# Altium footprint library ap-pam.PcbLib: 8 footprints
Each footprint in its own frame and in the unit in brackets; x right, y up, seen from the top. Pads: shape width x height; smd on the part's side, far side on the other; paste and mask are expansions set on the pad; w line width, h text height; cw(c..) or ccw(c..) is an arc to the next point about the centre after c.
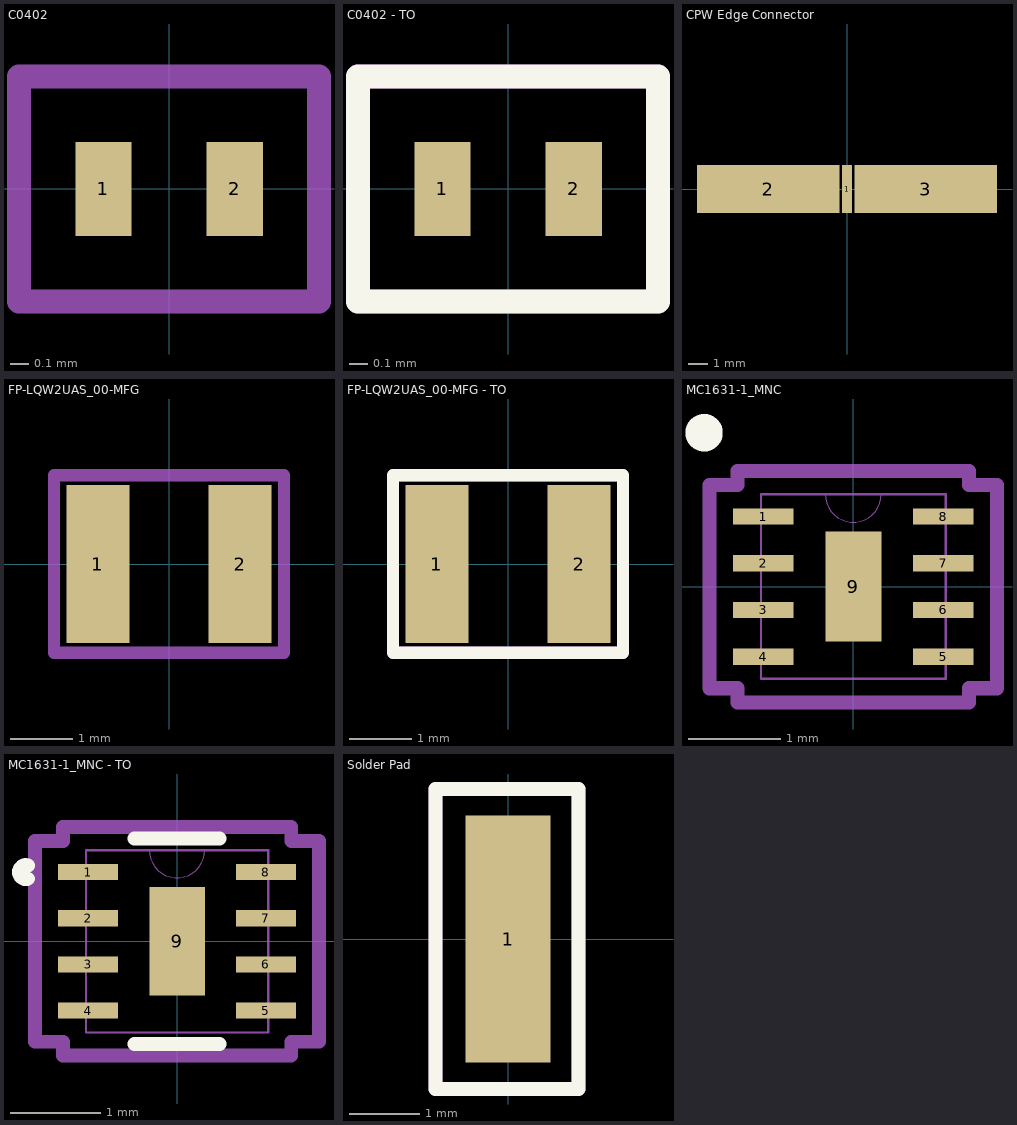
[diagram p0: the footprints below, top view; thin cyan lines are the x and y axes]

## C0402 [mm]
pads (2):
  rect 0.3x0.5 smd: 1(-0.35,0) 2(0.35,0)
Top Paste:
  rectangle: -0.5,-0.25 -0.2,0.25
  rectangle: 0.2,-0.25 0.5,0.25
Top Assembly:
  lines w0.127: -0.8,-0.6 0.8,-0.6 0.8,0.6 -0.8,0.6 -0.8,-0.6
  text ".Designator" at -2.499,-0.167 h0.5
3D body "CAP_0402_AVX.step": height 0.5, standoff 0, extent -0.51,-0.32 0.5,0.32

## C0402 - TO [mm]
pads (2):
  rect 0.3x0.5 smd: 1(-0.35,0) 2(0.35,0)
Top Overlay:
  lines w0.127: -0.8,-0.6 -0.8,0.6 0.8,0.6 0.8,-0.6 -0.8,-0.6
Top Paste:
  rectangle: 0.2,-0.25 0.5,0.25
  rectangle: -0.5,-0.25 -0.2,0.25
Top Assembly:
  lines w0.127: -0.8,-0.6 -0.8,0.6 0.8,0.6 0.8,-0.6 -0.8,-0.6
  text ".Designator" at -3.499,-0.233 h0.7
3D body "CAP_0402_AVX.step": height 0.5, standoff 0, extent -0.51,-0.32 0.5,0.32

## CPW Edge Connector [mm]
pads (3):
  rect 0.538x2.54 smd paste-2539.97: 1(0,0)
  rect 7.5x2.54 smd paste-2539.97: 2(-4.133,0) 3(4.133,0)

## FP-LQW2UAS_00-MFG [mm]
pads (2):
  rect 1.015x2.54 smd paste+0 mask+0: 1(-1.142,0) 2(1.142,0)
Top Assembly:
  lines w0.2: -1.85,-1.425 1.85,-1.425 1.85,1.425 -1.85,1.425 -1.85,-1.425
  text ".Designator" at -2.499,-0.167 h0.5
3D body "Ind_Murata_LQW2UAS12NG00B_eec.STEP": height 2.03, standoff 0, extent -1.31,-1.225 1.31,1.225

## FP-LQW2UAS_00-MFG - TO [mm]
pads (2):
  rect 1.015x2.54 smd paste+0 mask+0: 1(-1.142,0) 2(1.142,0)
Top Overlay:
  lines w0.2: -1.85,-1.425 1.85,-1.425 1.85,1.425 -1.85,1.425 -1.85,-1.425
Top Assembly:
  lines w0.2: -1.85,-1.425 -1.85,1.425 1.85,1.425 1.85,-1.425 -1.85,-1.425
  text ".Designator" at 0,0.188 h1
3D body "Ind_Murata_LQW2UAS12NG00B_eec.STEP": height 2.03, standoff 0, extent -1.31,-1.225 1.31,1.225

## MC1631-1_MNC [mil]
pads (9):
  rect 26x7 smd paste+0 mask+0: 1(-38.5,30) 2(-38.5,10) 3(-38.5,-10) 4(-38.5,-30) 5(38.5,-30) 6(38.5,-10) 7(38.5,10) 8(38.5,30)
  rect 24x47 smd paste+0 mask+0: 9(0,0)
Top Overlay:
  circle w10: c-63.89,65.85 r3
  lines w6: -62.99,62.99 cw(c-63.89,65.85) -62.99,68.72
Top Assembly:
  lines w0: -12,39.5 ccw(c0,39.5) 12,39.5
  lines w1: -39.5,-39.5 -39.5,39.5 39.5,39.5 39.5,-39.5 -39.5,-39.5
  lines w6: -61.5,-43.5 -49.5,-43.5 -49.5,-49.5 49.5,-49.5 49.5,-43.5 61.5,-43.5 61.5,43.5 49.5,43.5 49.5,49.5 -49.5,49.5 -49.5,43.5 -61.5,43.5 -61.5,-43.5
  text ".Designator" at -98.39,-6.56 h19.68
3D body "MC1631-1_MNC.step": height 41.1, standoff 0, extent -39.49,-39.49 39.49,39.49

## MC1631-1_MNC - TO [mil]
pads (9):
  rect 26x7 smd paste+0 mask+0: 1(-38.5,30) 2(-38.5,10) 3(-38.5,-10) 4(-38.5,-30) 5(38.5,-30) 6(38.5,-10) 7(38.5,10) 8(38.5,30)
  rect 24x47 smd paste+0 mask+0: 9(0,0)
Top Overlay:
  lines w6: -64.6,27.14 cw(c-65.5,30) -64.6,32.86 ; -18.39,-44.5 18.39,-44.5 ; -18.39,44.5 18.39,44.5
Top Assembly:
  lines w0: -12,39.5 ccw(c0,39.5) 12,39.5
  lines w1: -39.5,-39.5 39.5,-39.5 39.5,39.5 -39.5,39.5 -39.5,-39.5
  lines w6: -61.5,-43.5 -61.5,43.5 -49.5,43.5 -49.5,49.5 49.5,49.5 49.5,43.5 61.5,43.5 61.5,-43.5 49.5,-43.5 49.5,-49.5 -49.5,-49.5 -49.5,-43.5 -61.5,-43.5
  text ".Designator" at -137.75,-9.18 h27.56
3D body "MC1631-1_MNC.step": height 41.1, standoff 0, extent -39.49,-39.49 39.49,39.49

## Solder Pad [mm]
pads (1):
  rect 1.2x3.5 smd paste-2539.97: 1(0,0)
Top Overlay:
  lines w0.2: -1.025,-2.125 1,-2.125 1,2.125 -1.025,2.125 -1.025,-2.125
Top Assembly:
  lines w0.2: -1.025,-2.125 1,-2.125 1,2.125 -1.025,2.125 -1.025,-2.125
  text ".Designator" at 0.233,-3.499 h0.7